# Altium schematic symbol library rohm.SCHLIB: 9 symbols
Pins are listed as number, name and electrical type; pins without a type are passive.

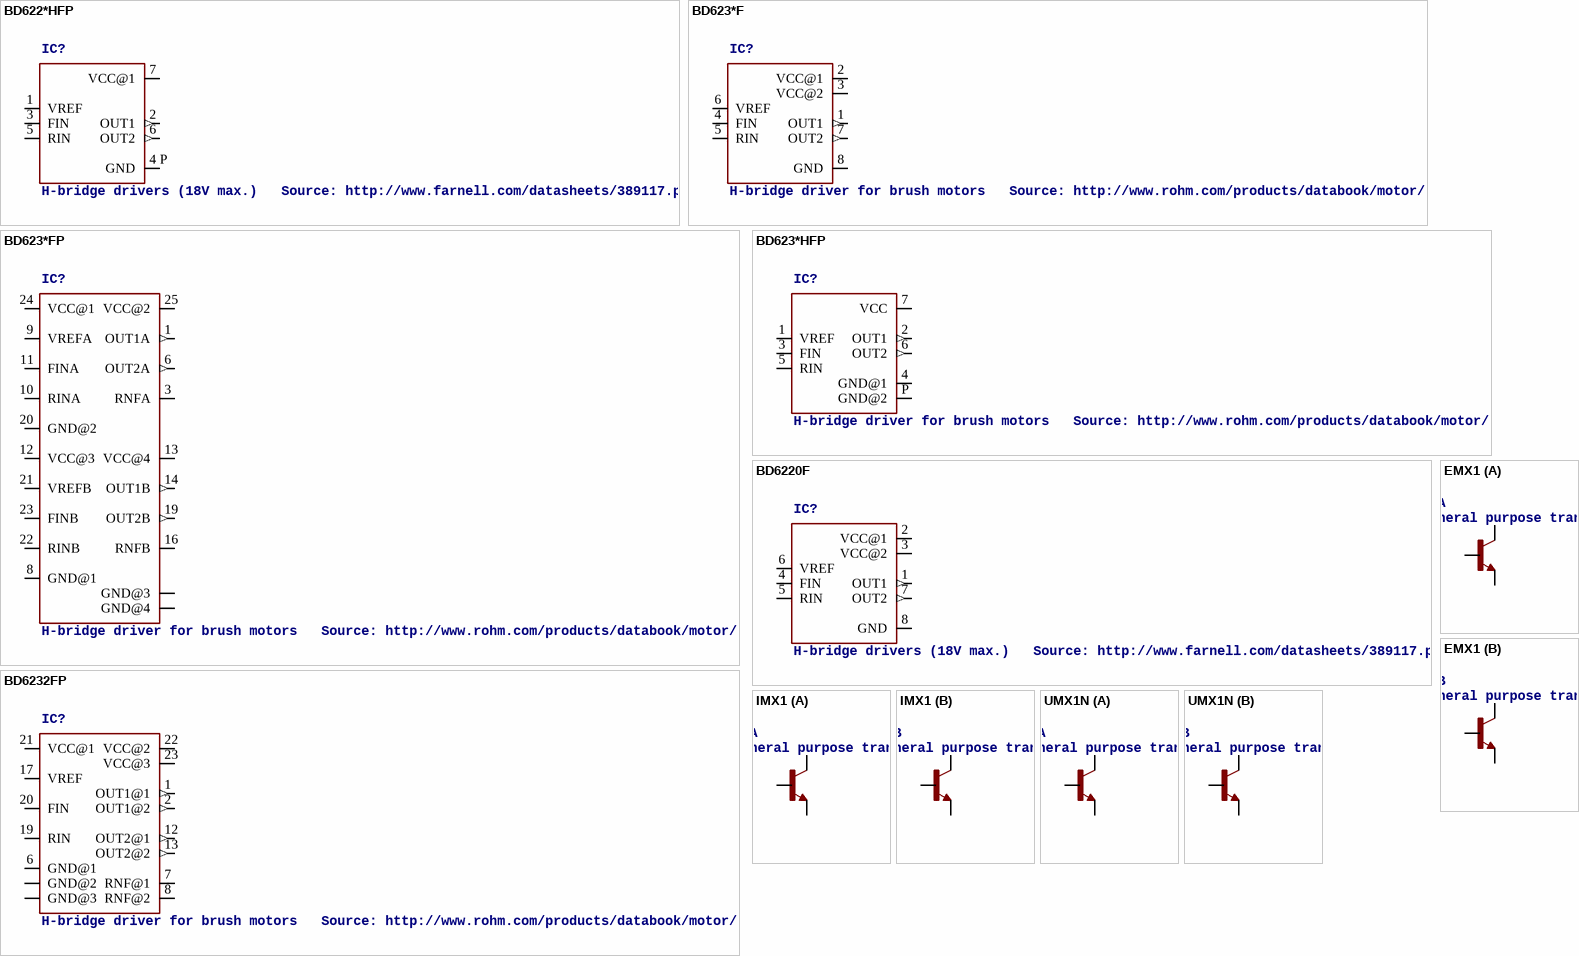
[diagram p0: symbols BD622*HFP to UMX1N]

## BD622*HFP
designator IC?, comment H-bridge drivers (18V max.)   Source: http://www.farnell.com/datasheets/389117.pdf
footprint HRP7
pins: 1 VREF, 2 OUT1 (out), 3 FIN, 4 P GND (power), 5 RIN, 6 OUT2 (out), 7 VCC@1 (power)

## BD623*F
designator IC?, comment H-bridge driver for brush motors   Source: http://www.rohm.com/products/databook/motor/pdf/bd623x_series-e.pdf
MPN: BD6230F-E2; MPN: BD6231F-E2; OC_FARNELL: 1716264; OC_NEWARK: 15R0529; OC_FARNELL: 1716265; OC_NEWARK: 15R0530
footprint SOP8
pins: 1 OUT1 (out), 2 VCC@1 (power), 3 VCC@2 (power), 4 FIN, 5 RIN, 6 VREF, 7 OUT2 (out), 8 GND (power)

## BD623*FP
designator IC?, comment H-bridge driver for brush motors   Source: http://www.rohm.com/products/databook/motor/pdf/bd623x_series-e.pdf
OC_FARNELL: unknown; OC_NEWARK: unknown
footprint HSOP28
pins: 1 OUT1A (out), 3 RNFA, 6 OUT2A (out), 8 GND@1 (power), 9 VREFA, 10 RINA, 11 FINA, 12 VCC@3 (power), 13 VCC@4 (power), 14 OUT1B (out), 16 RNFB, 19 OUT2B (out), 20 GND@2 (power), 21 VREFB, 22 RINB, 23 FINB, 24 VCC@1 (power), 25 VCC@2 (power), GND@1 GND@3 (power), GND@2 GND@4 (power)

## BD623*HFP
designator IC?, comment H-bridge driver for brush motors   Source: http://www.rohm.com/products/databook/motor/pdf/bd623x_series-e.pdf
MPN: BD6231HFP-TR; MPN: BD6232HFP-TR; OC_FARNELL: unknown; OC_NEWARK: unknown; OC_FARNELL: 1712946; OC_NEWARK: 24R5626; OC_FARNELL: 1712947; OC_NEWARK: 24R5627
footprint HRP7
pins: 1 VREF, 2 OUT1 (out), 3 FIN, 4 GND@1 (power), 5 RIN, 6 OUT2 (out), 7 VCC (power), P GND@2 (power)

## BD6220F
designator IC?, comment H-bridge drivers (18V max.)   Source: http://www.farnell.com/datasheets/389117.pdf
footprint SOP8
pins: 1 OUT1 (out), 2 VCC@1 (power), 3 VCC@2 (power), 4 FIN, 5 RIN, 6 VREF, 7 OUT2 (out), 8 GND (power)

## BD6232FP
designator IC?, comment H-bridge driver for brush motors   Source: http://www.rohm.com/products/databook/motor/pdf/bd623x_series-e.pdf
MPN: BD6232FP-E2; OC_FARNELL: 1716266; OC_NEWARK: 15R0531
footprint HSOP25
pins: 1 OUT1@1 (out), 2 OUT1@2 (out), 6 GND@1 (power), 7 RNF@1, 8 RNF@2, 12 OUT2@1 (out), 13 OUT2@2 (out), 17 VREF, 19 RIN, 20 FIN, 21 VCC@1 (power), 22 VCC@2 (power), 23 VCC@3 (power), GND@1 GND@2 (power), GND@2 GND@3 (power)

## EMX1
designator T?, comment General purpose transistors (dual transistors)     Two 2SC2412K chips in a EMT or UMT or SMT package. Source: http://www.rohm.com/products/databook/tr/pdf/umx1n.pdf
MPN: EMX1T2R; OC_FARNELL: 1680314; OC_NEWARK: 40P3026
footprint EMT6
part A pins: 1 E, 2 B, 6 C
part B pins: 3 C, 4 E, 5 B

## IMX1
designator T?, comment General purpose transistors (dual transistors)     Two 2SC2412K chips in a EMT or UMT or SMT package. Source: http://www.rohm.com/products/databook/tr/pdf/umx1n.pdf
MPN: IMX1T110; OC_FARNELL: 1680348; OC_NEWARK: 74M2434
footprint SMT6
part A pins: 1 C, 5 B, 6 E
part B pins: 2 B, 3 E, 4 C

## UMX1N
designator Q?, comment General purpose transistors (dual transistors)     Two 2SC2412K chips in a EMT or UMT or SMT package. Source: http://www.rohm.com/products/databook/tr/pdf/umx1n.pdf
MPN: UMX1NTN; OC_FARNELL: 1680410; OC_NEWARK: 40P3417
footprint UMT6
part A pins: 1 E, 2 B, 6 C
part B pins: 3 C, 4 E, 5 B